# EAGLE library part PSP-JOYSTICK (library BBALES-TB)
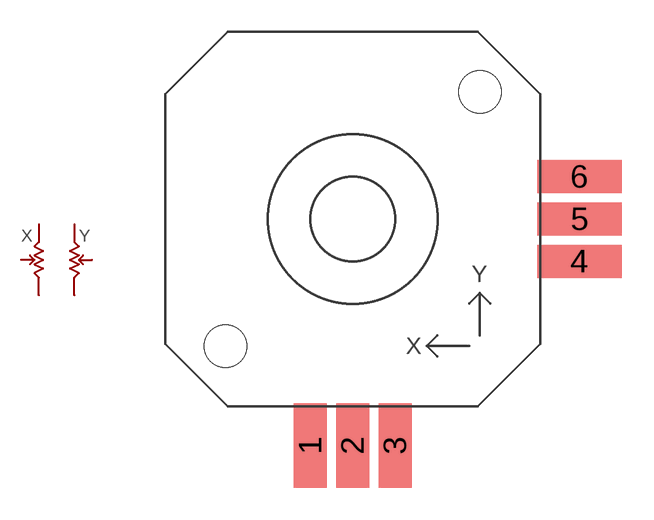
[diagram p0: symbol with the pads of PSP-JOYSTICK; footprint PSP-JOYSTICK]

Designator prefix POT

## PSP-JOYSTICK  [PSP-JOYSTICK]
1  LY
2  PY
3  HY
4  LX
5  PX
6  HX

## Footprint PSP-JOYSTICK (pad centres in mm)
smd 1.55 x 4: 1 -2,-10.7; 2 0,-10.7; 3 2,-10.7
smd 4 x 1.55: 4 10.7,-2; 5 10.7,0; 6 10.7,2
hole 2 at -6,-6
hole 2 at 6,6